# Altium footprint library PcbLib1.PcbLib: 28 footprints (part 1 of 2)
Each footprint in its own frame and in the unit in brackets; x right, y up, seen from the top. Pads: shape width x height; smd on the part's side, far side on the other; paste and mask are expansions set on the pad; w line width, h text height; cw(c..) or ccw(c..) is an arc to the next point about the centre after c.
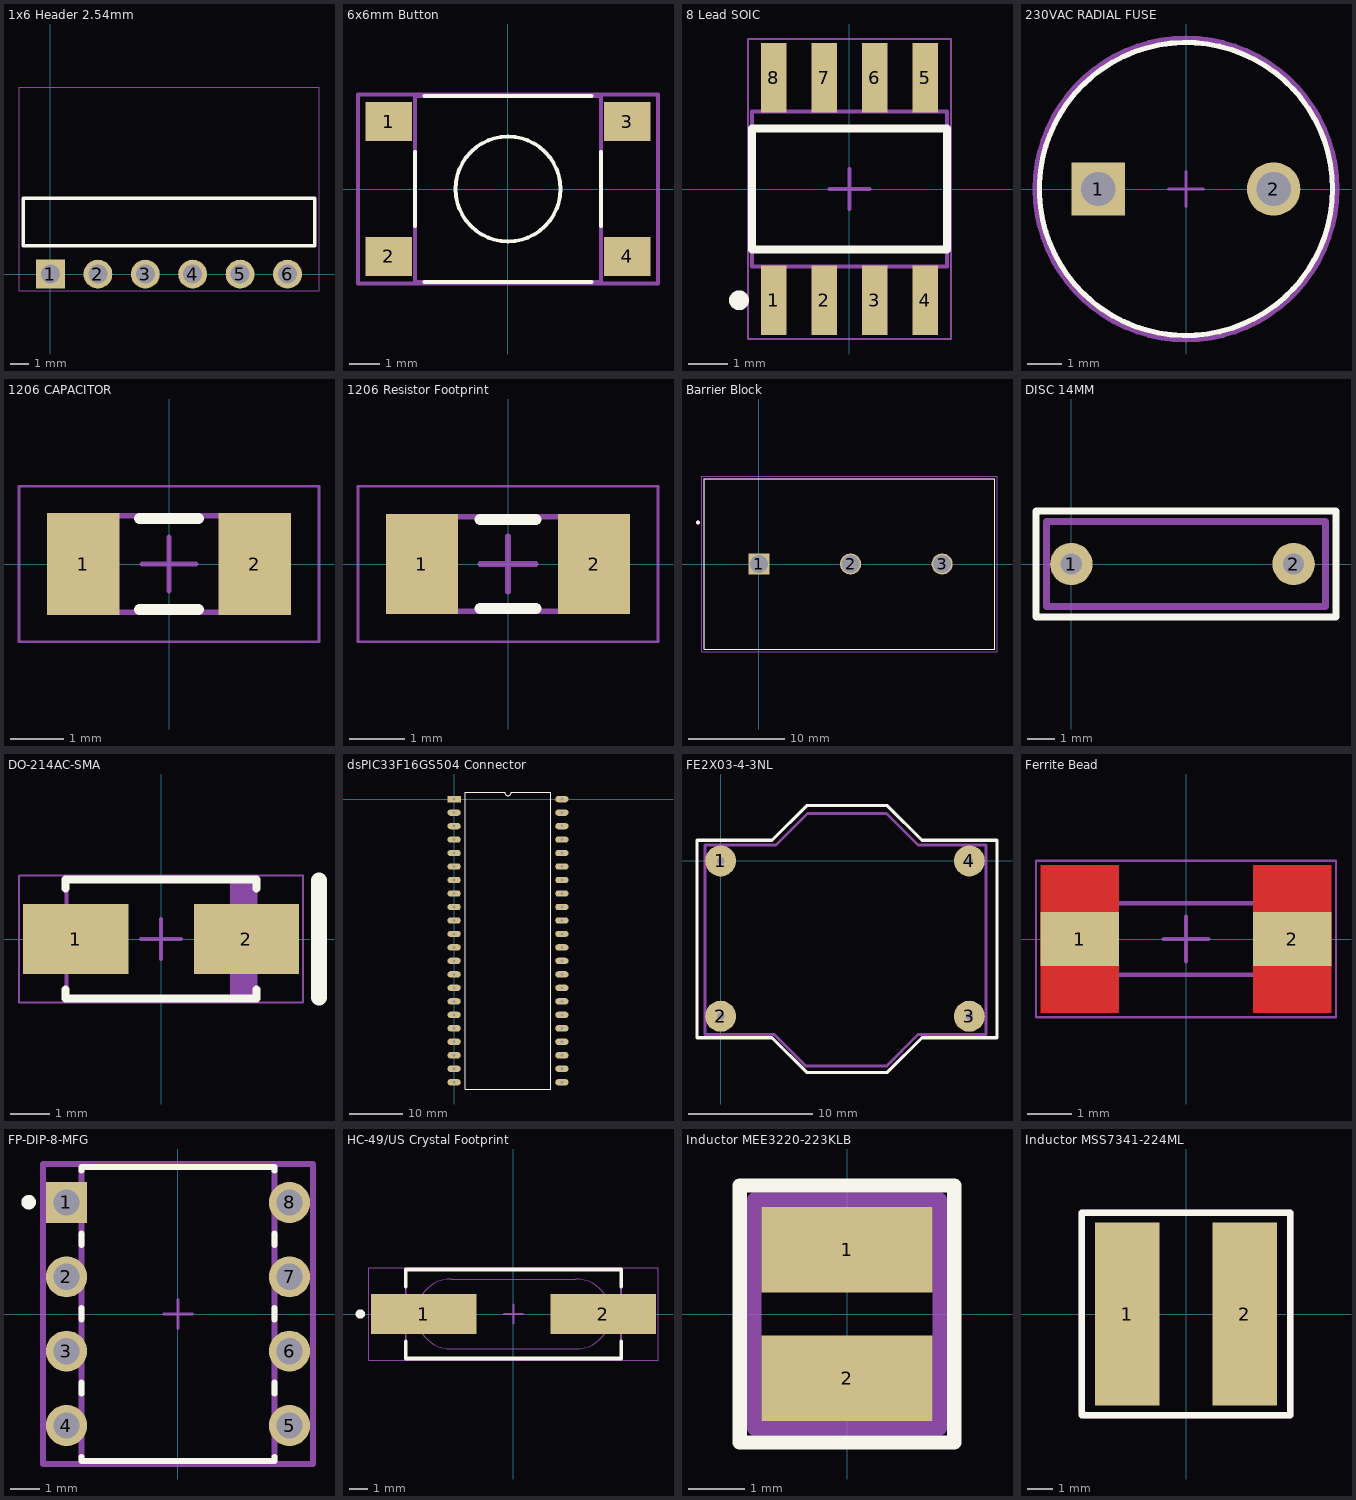
[diagram p0: the footprints below, top view; thin cyan lines are the x and y axes]

## 1x6 Header 2.54mm [mm] ".025 SQ Post Terminal Strip Assembly, 1x6 Pins, Right Angle, 2.54mm Pitch, Male"
height 3.02
pads (6):
  rect 1.55x1.55 hole 1.02: 1(0,0)
  round 1.55 hole 1.02: 2(2.54,0) 3(5.08,0) 4(7.62,0) 5(10.16,0) 6(12.7,0)
Top Overlay:
  lines w0.2: -1.46,1.52 -1.46,4.06 14.16,4.06 14.16,1.52 -1.46,1.52
Mechanical 13:
  lines w0.1: -1.46,1.52 -1.46,4.06 14.16,4.06 14.16,1.52 -1.46,1.52
Mechanical 15:
  lines w0.05: -1.685,-0.9 -1.685,10.025 14.385,10.025 14.385,-0.9 -1.685,-0.9
3D body "TSW-106-08-X-S-RA.step": height 3.05, standoff -2.29, extent -1.27,-0.323 13.97,9.9

## 6x6mm Button [mm] "6*6mm vertical type, SMD, height 4.3mm, salmon actuator, 360gf, T&R"
height 4.3
pads (4):
  rect 1.55x1.3 smd: 1(-3.975,2.25) 2(-3.975,-2.25) 3(3.975,2.25) 4(3.975,-2.25)
Top Overlay:
  circle w0.127: c0,0 r1.75
  lines w0.127: -3.1,-1.24 -3.1,1.24 ; -2.79,-3.1 2.79,-3.1 ; -2.79,3.1 2.79,3.1 ; 3.1,-1.24 3.1,1.24
Mechanical 13:
  lines w0.127: -3.1,-3.1 -3.1,3.1 3.1,3.1 3.1,-3.1 -3.1,-3.1
Mechanical 15:
  lines w0.127: -5,-3.15 5,-3.15 5,3.15 -5,3.15 -5,-3.15
3D body "4301x20438x6.stp": height 4.29, standoff -0.01, extent -4.5,-3.1 4.5,3.1

## 8 Lead SOIC [mm] "SOIC, 8-Leads, Body 4.9x3.9mm, Pitch 1.27mm"
height 1.75
pads (8):
  rect 0.65x1.75 smd: 1(-1.905,-2.8) 2(-0.635,-2.8) 3(0.635,-2.8) 4(1.905,-2.8) 5(1.905,2.8) 6(0.635,2.8) 7(-0.635,2.8) 8(-1.905,2.8)
Top Overlay:
  circle w0.25: c-2.78,-2.8 r0.125
  lines w0.2: -2.45,-1.525 2.45,-1.525 2.45,1.525 -2.45,1.525 -2.45,-1.525
Mechanical 13:
  lines w0.1: -2.45,-1.95 -2.45,1.95 2.45,1.95 2.45,-1.95 -2.45,-1.95
Mechanical 15:
  lines w0.05: -2.55,-3.775 2.55,-3.775 2.55,3.775 -2.55,3.775 -2.55,-3.775
  lines w0.1: -0.5,0 0.5,0 ; 0,-0.5 0,0.5
3D body: height 1.75, standoff 0.1, extent -2.45,-1.95 2.45,1.95

## 230VAC RADIAL FUSE [mm]
pads (2):
  rect 1.55x1.55 hole 1 paste-1000 mask+0: 1(-2.54,0)
  round 1.55 hole 1 paste-1000 mask+0: 2(2.54,0)
Top Overlay:
  circle w0.15: c0,0 r4.25
Mechanical 5:
  text ".Designator" at 0,-0.001 h1
Mechanical 13:
  circle w0.15: c0,0 r4.25
Mechanical 15:
  lines w0.2: -4.35,0 cw(c0,0) 4.35,0 cw(c0,0) -4.35,0
Mechanical 16:
  lines w0.1: -0.5,0 0.5,0 ; 0,-0.5 0,0.5
3D body "Fuse_Schurter_0034_6011_eec.STEP": height 0.25, standoff 0, extent -4.35,-4.35 4.35,4.35

## 1206 CAPACITOR [mm] "Chip Capacitor, Body 3.2x1.6mm, Height 1.9mm, IPC Low Density"
height 1.9
pads (2):
  rect 1.35x1.9 smd: 1(-1.6,0) 2(1.6,0)
Top Overlay:
  lines w0.2: -0.55,-0.85 0.55,-0.85 ; -0.55,0.85 0.55,0.85
Mechanical 13:
  lines w0.1: -1.7,-0.9 -1.7,0.9 1.7,0.9 1.7,-0.9 -1.7,-0.9
Mechanical 15:
  lines w0.05: -2.8,-1.45 -2.8,1.45 2.8,1.45 2.8,-1.45 -2.8,-1.45
  lines w0.1: -0.5,0 0.5,0 ; 0,-0.5 0,0.5
3D body: height 1.9, standoff 0, extent -1.2,-0.9 1.2,0.9
3D body: height 1.9, standoff 0, extent -1.7,-0.9 -1.2,0.9
3D body: height 1.9, standoff 0, extent 1.2,-0.9 1.7,0.9

## 1206 Resistor Footprint [mm] "Chip Resistor, 2-Leads, Body 3.20x1.60mm, IPC Low Density"
height 0.6
pads (2):
  rect 1.3x1.8 smd: 1(-1.55,0) 2(1.55,0)
Top Overlay:
  lines w0.2: -0.5,-0.8 0.5,-0.8 ; -0.5,0.8 0.5,0.8
Mechanical 13:
  lines w0.1: -1.65,-0.85 1.65,-0.85 1.65,0.85 -1.65,0.85 -1.65,-0.85
Mechanical 15:
  lines w0.05: -2.7,-1.4 2.7,-1.4 2.7,1.4 -2.7,1.4 -2.7,-1.4
  lines w0.1: -0.5,0 0.5,0 ; 0,-0.5 0,0.5
3D body: height 0.6, standoff 0, extent 1.2,-0.85 1.65,0.85
3D body: height 0.6, standoff 0, extent -1.65,-0.85 -1.2,0.85
3D body: height 0.6, standoff 0, extent -1.2,-0.85 1.2,0.85

## Barrier Block [mm]
pads (3):
  rect 2.204x2.204 hole 1.854: 1(0,0)
  round 2.204 hole 1.854: 2(9.53,0) 3(19.06,0)
Top Overlay:
  circle w0.2: c-6.355,4.318 r0.1
  lines w0.127: -5.705,-8.89 -5.705,8.89 24.531,8.89 24.531,-8.89 -5.705,-8.89
Mechanical 13:
  circle w0.2: c-6.355,4.318 r0.1
  lines w0.127: -5.705,-8.89 -5.705,8.89 24.531,8.89 24.531,-8.89 ; -5.705,-8.89 24.531,-8.89 ; -5.705,-8.89 24.531,-8.89
Mechanical 15:
  lines w0.05: -5.955,-9.14 -5.955,9.14 24.781,9.14 24.781,-9.14 -5.955,-9.14
3D body "User Library-0387206303.STEP": height 16.76, standoff -4.83, extent -5.969,-7.874 24.765,7.874

## DISC 14MM [mil]
pads (2):
  round 60 hole 30: 1(0,0) 2(315,0)
Top Overlay:
  lines w10: -50,-75 -50,75 375,75 375,-75 -50,-75
Mechanical 13:
  lines w10: -35,-60 -35,60 360,60 360,-60 -35,-60
3D body: height 500, standoff 0, extent -25,-50 350,50

## DO-214AC-SMA [mm] "Molded Diode, 2-Leads, Body 4.75x2.95mm"
height 2.7
pads (2):
  rect 2.65x1.75 smd: 1(-2.15,0) 2(2.15,0)
Top Overlay:
  lines w0.2: -2.4,-1.275 -2.4,-1.5 2.4,-1.5 2.4,-1.275 ; -2.4,1.275 -2.4,1.5 2.4,1.5 2.4,1.275
  lines w0.4: 3.975,-1.475 3.975,1.475
Mechanical 13:
  rectangle: 1.736,-1.475 2.375,1.475
  lines w0.1: -2.375,-1.475 2.375,-1.475 2.375,1.475 -2.375,1.475 -2.375,-1.475
Mechanical 15:
  lines w0.05: -3.575,-1.6 3.575,-1.6 3.575,1.6 -3.575,1.6 -3.575,-1.6
  lines w0.1: -0.5,0 0.5,0 ; 0,-0.5 0,0.5
3D body "DIOM4427X27L.step": height 2.7, standoff 0, extent -2.595,-1.475 2.595,1.475

## dsPIC33F16GS504 Connector [mm]
pads (44):
  rect 2.5x1.2 hole 0.6: 1(0,0)
  oval 2.5x1.2 hole 0.6: 2(0,-2.54) 3(0,-5.08) 4(0,-7.62) 5(0,-10.16) 6(0,-12.7) 7(0,-15.24) 8(0,-17.78) 9(0,-20.32) 10(0,-22.86) 11(0,-25.4) 12(0,-27.94) 13(0,-30.48) 14(0,-33.02) 15(0,-35.56) 16(0,-38.1) 17(0,-40.64) 18(0,-43.18) 19(0,-45.72) 20(0,-48.26) 21(0,-50.8) 22(0,-53.34) 23(20.3,-53.34) 24(20.3,-50.8) 25(20.3,-48.26) 26(20.3,-45.72) 27(20.3,-43.18) 28(20.3,-40.64) 29(20.3,-38.1) 30(20.3,-35.56) 31(20.3,-33.02) 32(20.3,-30.48) 33(20.3,-27.94) 34(20.3,-25.4) 35(20.3,-22.86) 36(20.3,-20.32) 37(20.3,-17.78) 38(20.3,-15.24) 39(20.3,-12.7) 40(20.3,-10.16) 41(20.3,-7.62) 42(20.3,-5.08) 43(20.3,-2.54) 44(20.3,0)
Top Overlay:
  lines w0.2: 2.085,-54.61 18.215,-54.61 18.215,1.27 10.785,1.27 cw(c10.15,1.27) 9.515,1.27 2.085,1.27 2.085,-54.61

## FE2X03-4-3NL [mm]
pads (4):
  round 2.5 hole 0.6: 1(0,0) 2(0,-12.5) 3(20,-12.5) 4(20,0)
Top Overlay:
  lines w0.254: -1.905,-14.224 -1.905,-13.97 -1.905,1.651 4.127,1.651 6.921,4.445 13.399,4.445 16.192,1.651 22.225,1.651 22.225,-13.97 22.225,-14.224 16.192,-14.224 13.399,-17.018 6.921,-17.018 4.127,-14.224 -1.905,-14.224
Mechanical 13:
  lines w0.254: -1.27,-13.97 -1.27,1.27 4.445,1.27 6.985,3.81 13.335,3.81 15.875,1.27 21.336,1.27 21.336,-13.97 15.875,-13.97 13.335,-16.51 6.858,-16.51 4.318,-13.97 -1.27,-13.97
3D body: height 10.26, standoff 0, extent -1.27,-16.51 21.336,3.81

## Ferrite Bead [mm] "Chip Ferrite Bead, 2-Leads, Body 4.5x1.6mm, Height 1.8mm, 35um Land Pad Thickness, 6A Rated Current"
height 1.8
pads (2):
  rect 1.75x1.2 smd mask+0: 1(-2.375,0) 2(2.375,0)
Top Layer:
  region: 3.25,1.65 1.5,1.65 1.5,-1.65 3.25,-1.65
  rectangle: -3.25,-1.65 -1.5,1.65
Mechanical 6:
  text "Land Pattern Adapted for 35um Land Pad Thickness" at -2.3,1.95 h0.1
Mechanical 13:
  lines w0.1: -2.25,-0.8 -2.25,0.8 2.25,0.8 2.25,-0.8 -2.25,-0.8
Mechanical 15:
  lines w0.05: -3.35,-1.75 -3.35,1.75 3.35,1.75 3.35,-1.75 -3.35,-1.75
  lines w0.1: -0.5,0 0.5,0 ; 0,-0.5 0,0.5
3D body: height 1.8, standoff 0, extent -2.25,-0.8 2.25,0.8

## FP-DIP-8-MFG [mm]
pads (8):
  rect 1.4x1.4 hole 0.9 paste-1000 mask+0: 1(-3.81,3.81)
  round 1.4 hole 0.9 paste-1000 mask+0: 2(-3.81,1.27) 3(-3.81,-1.27) 4(-3.81,-3.81) 5(3.81,-3.81) 6(3.81,-1.27) 7(3.81,1.27) 8(3.81,3.81)
Top Overlay:
  circle w0.25: c-5.1,3.82 r0.125
  lines w0.2: -3.3,-4.875 -3.3,-5.025 3.3,-5.025 3.3,-4.875 ; -3.3,-2.725 -3.3,-2.335 ; -3.3,-0.185 -3.3,0.205 ; -3.3,2.355 -3.3,2.745 ; -3.3,4.895 -3.3,5.025 3.3,5.025 3.3,4.895 ; 3.3,-2.725 3.3,-2.335 ; 3.3,-0.185 3.3,0.205 ; 3.3,2.355 3.3,2.745
Mechanical 5:
  lines w0.2: -4.61,-5.125 -4.61,5.125 4.61,5.125 4.61,-5.125 -4.61,-5.125
  text ".Designator" at 0,-0.001 h1
Mechanical 13:
  lines w0.2: -3.3,-5.025 -3.3,5.025 3.3,5.025 3.3,-5.025 -3.3,-5.025
Mechanical 15:
  lines w0.2: -4.61,-5.125 -4.61,5.125 4.61,5.125 4.61,-5.125 -4.61,-5.125
Mechanical 16:
  lines w0.1: -0.5,0 0.5,0 ; 0,-0.5 0,0.5
3D body "Trans_Broadcom_HCPL-3120-000E_eec.STEP": height 0.25, standoff 0, extent -4.61,-5.125 4.61,5.125

## HC-49/US Crystal Footprint [mm] "SMD, 2-Leads, Body 11.4x4.7mm, Height 3.3mm"
height 3.3
pads (2):
  rect 5.6x2.1 smd: 1(-4.75,0) 2(4.75,0)
Top Overlay:
  circle w0.25: c-8.1,0 r0.125
  lines w0.2: -5.7,-1.45 -5.7,-2.35 5.7,-2.35 5.7,-1.45 ; -5.7,1.45 -5.7,2.35 5.7,2.35 5.7,1.45
Mechanical 13:
  lines w0.05: -3.3,-1.85 cw(c-3.3,0) -3.3,1.85 3.3,1.85 cw(c3.3,0) 3.3,-1.85 -3.3,-1.85
  lines w0.1: -5.7,-2.35 -5.7,2.35 5.7,2.35 5.7,-2.35 -5.7,-2.35
Mechanical 15:
  lines w0.05: -7.65,-2.45 7.65,-2.45 7.65,2.45 -7.65,2.45 -7.65,-2.45
  lines w0.1: -0.5,0 0.5,0 ; 0,-0.5 0,0.5
3D body: height 3.3, standoff 0.5, extent -5.151,-1.851 5.151,1.851
3D body: height 0.5, standoff 0, extent -5.699,-2.349 5.699,2.349

## Inductor MEE3220-223KLB [mil]
pads (2):
  rect 120x60 smd: 1(0,45) 2(0,-45)
Top Overlay:
  lines w10: -75,-90 75,-90 75,90 -75,90 -75,-90
Mechanical 13:
  lines w10: -65,-80 -65,80 65,80 65,-80 -65,-80
3D body: height 96, standoff 0, extent -65,-80 65,80

## Inductor MSS7341-224ML [mil]
pads (2):
  rect 99x280 smd: 1(-90,0) 2(90,0)
Top Overlay:
  lines w10: -160,-155 150,-155 160,-155 160,155 -160,155 -160,-155
Mechanical 13:
  lines w10: -160,-150 -155,-155 160,-155 160,155 -160,155 -160,-150
3D body: height 27.56, standoff 0, extent 0,115 0,115
3D body: height 27.56, standoff 0, extent 10,105 10,105
3D body: height 161, standoff 0, extent -145,-145 145,145